# Altium integrated library Diodes - TVS.IntLib: 5379 symbols (part 51 of 122)
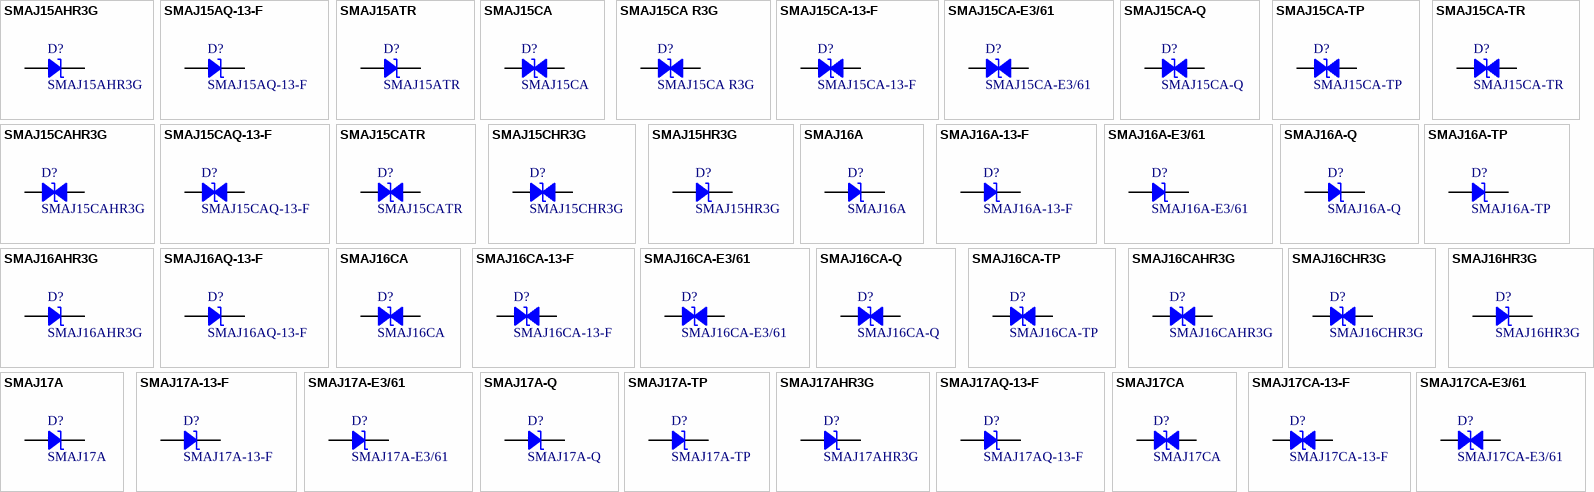
[diagram p184: symbols SMAJ15AHR3G to SMAJ17CA-E3/61]

## SMAJ15AHR3G
designator D?
TVS DIODE 15V 24.4V DO214AC; Manufacturer: Taiwan Semiconductor Corporation; Current - Peak Pulse (10/1000µs): 16.4A; Power Line Protection: No; Power - Peak Pulse: 400W; Type: Zener; Unidirectional Channels: 1; Voltage - Breakdown (Min): 16.7V; Part Number: SMAJ15AHR3G; Applications: Automotive; ComponentLink1Description: Datasheet; ComponentLink1URL: https://www.taiwansemi.com/products/datasheet/SMAJ%20SERIES_S1901.pdf; ComponentLink2Description: DigiKey Link; ComponentLink2URL: http://digikey.com/product-detail/en/taiwan-semiconductor-corporation/SMAJ15AHR3G/SMAJ15AHR3GCT-ND/10287915; LastUpdated: 9/2/2020 1:20:17 AM; Lifecycle Status: Active; Minimum Order: 1; Mounting Type: Surface Mount; Operating Temperature: -55°C ~ 150°C (TJ); Package / Case: DO-214AC, SMA; Packaging: TapeAndReel; PartId: 6067; Part Status: Active; Price: 0.11; Series: Automotive, AEC-Q101, SMAJ; Supplier 1: DigiKey; Supplier Part Number 1: SMAJ15AHR3GCT-ND; Supplier Device Package: DO-214AC (SMA); Voltage - Clamping (Max) @ Ipp: 24.4V; Voltage - Reverse Standoff (Typ): 15V
footprint DO214AC SMA
pins: 1, 2

## SMAJ15AQ-13-F
designator D?
TRANSIENT VOLTAGE SUPPRESSOR,SMA; Manufacturer: Diodes Incorporated; Current - Peak Pulse (10/1000µs): 16.4A; Power Line Protection: No; Power - Peak Pulse: 400W; Type: Zener; Unidirectional Channels: 1; Voltage - Breakdown (Min): 16.7V; Voltage - Clamping (Max) @ Ipp: 24.4V; Voltage - Reverse Standoff (Typ): 15V; Part Number: SMAJ15AQ-13-F; Applications: Automotive; ComponentLink1Description: Datasheet; ComponentLink1URL: https://www.diodes.com/assets/Datasheets/ds40739.pdf; ComponentLink2Description: DigiKey Link; ComponentLink2URL: http://digikey.com/product-detail/en/diodes-incorporated/SMAJ15AQ-13-F/SMAJ15AQ-13-FDICT-ND/9738956; LastUpdated: 9/2/2020 1:20:13 AM; Lifecycle Status: Active; Minimum Order: 1; Mounting Type: Surface Mount; Operating Temperature: -55°C ~ 150°C (TJ); Package / Case: DO-214AC, SMA; Packaging: TapeAndReel; PartId: 5653; Part Status: Active; Price: 0.09; Series: Automotive, AEC-Q101; Supplier 1: DigiKey; Supplier Part Number 1: SMAJ15AQ-13-FDICT-ND; Supplier Device Package: SMA
footprint DO214AC SMA
pins: 1, 2

## SMAJ15ATR
designator D?
TVS DIODE 15V 24.4V SMA; Manufacturer: SMC Diode Solutions; Current - Peak Pulse (10/1000µs): 16.4A; Power Line Protection: No; Power - Peak Pulse: 400W; Type: Zener; Unidirectional Channels: 1; Voltage - Breakdown (Min): 16.7V; Part Number: SMAJ15ATR; Applications: General Purpose; ComponentLink1Description: Datasheet; ComponentLink1URL: http://www.smc-diodes.com/propdf/SMAJ%20SERIES%20N0223%20REV.B.pdf; ComponentLink2Description: DigiKey Link; ComponentLink2URL: http://digikey.com/product-detail/en/smc-diode-solutions/SMAJ15ATR/1655-1609-1-ND/6023054; LastUpdated: 9/2/2020 1:20:18 AM; Lifecycle Status: Active; Minimum Order: 1; Mounting Type: Surface Mount; Operating Temperature: -55°C ~ 150°C (TJ); Package / Case: DO-214AC, SMA; Packaging: TapeAndReel; PartId: 6169; Part Status: Active; Price: 0.07; Series: SMAJ; Supplier 1: DigiKey; Supplier Part Number 1: 1655-1609-1-ND; Supplier Device Package: SMA (DO-214AC); Voltage - Clamping (Max) @ Ipp: 24.4V; Voltage - Reverse Standoff (Typ): 15V
footprint DO214AC SMA
pins: 1, 2

## SMAJ15CA
designator D?
TVS DIODE 15V 24.4V DO214AC; Manufacturer: Littelfuse Inc.; Bidirectional Channels: 1; Current - Peak Pulse (10/1000µs): 16.4A; Power Line Protection: No; Power - Peak Pulse: 400W; Type: Zener; Voltage - Breakdown (Min): 16.7V; Part Number: SMAJ15CA; Applications: General Purpose; ComponentLink1Description: Datasheet; ComponentLink1URL: https://www.littelfuse.com/~/media/electronics/datasheets/tvs_diodes/littelfuse_tvs_diode_smaj_datasheet.pdf.pdf; ComponentLink2Description: DigiKey Link; ComponentLink2URL: http://digikey.com/product-detail/en/littelfuse-inc/SMAJ15CA/SMAJ15CALFCT-ND/762489; LastUpdated: 9/2/2020 1:27:51 AM; Lifecycle Status: Active; Minimum Order: 1; Mounting Type: Surface Mount; Operating Temperature: -65°C ~ 150°C (TJ); Package / Case: DO-214AC, SMA; Packaging: TapeAndReel; PartId: 7377; Part Status: Active; Price: 0.08; Series: SMAJ; Supplier 1: DigiKey; Supplier Part Number 1: SMAJ15CALFCT-ND; Supplier Device Package: DO-214AC (SMA); Voltage - Clamping (Max) @ Ipp: 24.4V; Voltage - Reverse Standoff (Typ): 15V
footprint DO214AC SMA
pins: 1, 2

## SMAJ15CA R3G
designator D?
TVS DIODE 15V 24.4V DO214AC; Manufacturer: Taiwan Semiconductor Corporation; Bidirectional Channels: 1; Current - Peak Pulse (10/1000µs): 16.4A; Power Line Protection: No; Power - Peak Pulse: 400W; Type: Zener; Voltage - Breakdown (Min): 16.7V; Part Number: SMAJ15CA R3G; Applications: General Purpose; ComponentLink1Description: Datasheet; ComponentLink1URL: https://www.taiwansemi.com/products/datasheet/SMAJ%20SERIES_S1901.pdf; ComponentLink2Description: DigiKey Link; ComponentLink2URL: http://digikey.com/product-detail/en/taiwan-semiconductor-corporation/SMAJ15CA-R3G/SMAJ15CAR3GCT-ND/7358793; LastUpdated: 9/2/2020 1:27:53 AM; Lifecycle Status: Active; Minimum Order: 0; Mounting Type: Surface Mount; Operating Temperature: -55°C ~ 150°C (TJ); Package / Case: DO-214AC, SMA; Packaging: TapeAndReel; PartId: 7577; Part Status: Active; Price: 0.11; Series: SMAJ; Supplier 1: DigiKey; Supplier Part Number 1: SMAJ15CAR3GCT-ND; Supplier Device Package: DO-214AC (SMA); Voltage - Clamping (Max) @ Ipp: 24.4V; Voltage - Reverse Standoff (Typ): 15V
footprint DO214AC SMA
pins: 1, 2

## SMAJ15CA-13-F
designator D?
TVS DIODE 15V 24.4V SMA; Manufacturer: Diodes Incorporated; Bidirectional Channels: 1; Current - Peak Pulse (10/1000µs): 16.4A; Power Line Protection: No; Power - Peak Pulse: 400W; Type: Zener; Voltage - Breakdown (Min): 16.7V; Part Number: SMAJ15CA-13-F; Applications: General Purpose; ComponentLink1Description: Datasheet; ComponentLink1URL: https://www.diodes.com/assets/Datasheets/ds19005.pdf; ComponentLink2Description: DigiKey Link; ComponentLink2URL: http://digikey.com/product-detail/en/diodes-incorporated/SMAJ15CA-13-F/SMAJ15CA-FDICT-ND/725071; LastUpdated: 9/2/2020 1:27:52 AM; Lifecycle Status: Active; Minimum Order: 1; Mounting Type: Surface Mount; Operating Temperature: -55°C ~ 150°C (TJ); Package / Case: DO-214AC, SMA; Packaging: TapeAndReel; PartId: 7424; Part Status: Active; Price: 0.09; Series: -; Supplier 1: DigiKey; Supplier Part Number 1: SMAJ15CA-FDICT-ND; Supplier Device Package: SMA; Voltage - Clamping (Max) @ Ipp: 24.4V; Voltage - Reverse Standoff (Typ): 15V
footprint DO214AC SMA
pins: 1, 2

## SMAJ15CA-E3/61
designator D?
TVS DIODE 15V 24.4V DO214AC; Manufacturer: Vishay Semiconductor Diodes Division; Bidirectional Channels: 1; Current - Peak Pulse (10/1000µs): 16.4A; Power Line Protection: No; Power - Peak Pulse: 400W; Type: Zener; Voltage - Breakdown (Min): 16.7V; Part Number: SMAJ15CA-E3/61; Applications: General Purpose; ComponentLink1Description: Datasheet; ComponentLink1URL: http://www.vishay.com/docs/88390/smaj50a.pdf; ComponentLink2Description: DigiKey Link; ComponentLink2URL: http://digikey.com/product-detail/en/vishay-semiconductor-diodes-division/SMAJ15CA-E3-61/SMAJ15CA-E3-61GICT-ND/2413372; LastUpdated: 9/2/2020 1:27:52 AM; Lifecycle Status: Active; Minimum Order: 1; Mounting Type: Surface Mount; Operating Temperature: -55°C ~ 150°C (TJ); Package / Case: DO-214AC, SMA; Packaging: TapeAndReel; PartId: 7528; Part Status: Active; Price: 0.09; Series: TransZorb®; Supplier 1: DigiKey; Supplier Part Number 1: SMAJ15CA-E3/61GICT-ND; Supplier Device Package: DO-214AC (SMA); Voltage - Clamping (Max) @ Ipp: 24.4V; Voltage - Reverse Standoff (Typ): 15V
footprint DO214AC SMA
pins: 1, 2

## SMAJ15CA-Q
designator D?
TVS DIODE 15V 24.4V SMA; Manufacturer: Bourns Inc.; Bidirectional Channels: 1; Current - Peak Pulse (10/1000µs): 16.4A; Power Line Protection: No; Power - Peak Pulse: 400W; Type: Zener; Voltage - Breakdown (Min): 16.7V; Part Number: SMAJ15CA-Q; Applications: Automotive; ComponentLink1Description: Datasheet; ComponentLink1URL: https://www.bourns.com/docs/Product-Datasheets/SMAJ-Q.pdf; ComponentLink2Description: DigiKey Link; ComponentLink2URL: http://digikey.com/product-detail/en/bourns-inc/SMAJ15CA-Q/SMAJ15CA-QCT-ND/10222682; LastUpdated: 9/2/2020 1:27:53 AM; Lifecycle Status: Active; Minimum Order: 1; Mounting Type: Surface Mount; Operating Temperature: -55°C ~ 150°C (TJ); Package / Case: DO-214AC, SMA; Packaging: TapeAndReel; PartId: 7616; Part Status: Active; Price: 0.11; Series: Automotive, AEC-Q101, SMAJ; Supplier 1: DigiKey; Supplier Part Number 1: SMAJ15CA-QCT-ND; Supplier Device Package: SMA (DO-214AC); Voltage - Clamping (Max) @ Ipp: 24.4V; Voltage - Reverse Standoff (Typ): 15V
footprint DO214AC SMA
pins: 1, 2

## SMAJ15CA-TP
designator D?
TVS DIODE 15V 24.4V DO214AC; Manufacturer: Micro Commercial Co; Bidirectional Channels: 1; Current - Peak Pulse (10/1000µs): 16.4A; Power Line Protection: No; Power - Peak Pulse: 400W; Type: Zener; Voltage - Breakdown (Min): 16.7V; Part Number: SMAJ15CA-TP; Applications: General Purpose; ComponentLink1Description: Datasheet; ComponentLink1URL: https://www.mccsemi.com/pdf/Products/SMAJ5.0~SMAJ440CA(SMA).pdf; ComponentLink2Description: DigiKey Link; ComponentLink2URL: http://digikey.com/product-detail/en/micro-commercial-co/SMAJ15CA-TP/SMAJ15CA-TPMSCT-ND/1200575; LastUpdated: 9/2/2020 1:27:54 AM; Lifecycle Status: Active; Minimum Order: 1; Mounting Type: Surface Mount; Operating Temperature: -55°C ~ 175°C (TA); Package / Case: DO-214AC, SMA; Packaging: TapeAndReel; PartId: 7649; Part Status: Active; Price: 0.10; Series: -; Supplier 1: DigiKey; Supplier Part Number 1: SMAJ15CA-TPMSCT-ND; Supplier Device Package: DO-214AC (SMA); Voltage - Clamping (Max) @ Ipp: 24.4V; Voltage - Reverse Standoff (Typ): 15V
footprint DO214AC SMA
pins: 1, 2

## SMAJ15CA-TR
designator D?
TVS DIODE 15V 32.5V SMA; Manufacturer: STMicroelectronics; Bidirectional Channels: 1; Current - Peak Pulse (10/1000µs): 71A (8/20µs); Power Line Protection: No; Power - Peak Pulse: 400W; Type: Zener; Voltage - Breakdown (Min): 16.7V; Part Number: SMAJ15CA-TR; Applications: General Purpose; ComponentLink1Description: Datasheet; ComponentLink1URL: http://www.st.com/content/ccc/resource/technical/document/datasheet/ff/c0/80/cc/19/4c/45/af/CD00001333.pdf/files/CD00001333.pdf/_jcr_content/translations/en.CD00001333.pdf; ComponentLink2Description: DigiKey Link; ComponentLink2URL: http://digikey.com/product-detail/en/stmicroelectronics/SMAJ15CA-TR/497-2997-1-ND/634874; LastUpdated: 9/2/2020 1:27:53 AM; Lifecycle Status: Active; Minimum Order: 1; Mounting Type: Surface Mount; Operating Temperature: -55°C ~ 150°C (TJ); Package / Case: DO-214AC, SMA; Packaging: TapeAndReel; PartId: 7533; Part Status: Active; Price: 0.10; Series: SMAJ, TRANSIL™; Supplier 1: DigiKey; Supplier Part Number 1: 497-2997-1-ND; Supplier Device Package: SMA (DO-214AC); Voltage - Clamping (Max) @ Ipp: 32.5V; Voltage - Reverse Standoff (Typ): 15V
footprint DO214AC SMA
pins: 1, 2

## SMAJ15CAHR3G
designator D?
TVS DIODE 15V 24.4V DO214AC; Manufacturer: Taiwan Semiconductor Corporation; Bidirectional Channels: 1; Current - Peak Pulse (10/1000µs): 16.4A; Power Line Protection: No; Power - Peak Pulse: 400W; Type: Zener; Voltage - Breakdown (Min): 16.7V; Part Number: SMAJ15CAHR3G; Applications: Automotive; ComponentLink1Description: Datasheet; ComponentLink1URL: https://www.taiwansemi.com/products/datasheet/SMAJ%20SERIES_S1901.pdf; ComponentLink2Description: DigiKey Link; ComponentLink2URL: http://digikey.com/product-detail/en/taiwan-semiconductor-corporation/SMAJ15CAHR3G/SMAJ15CAHR3GCT-ND/10287916; LastUpdated: 9/2/2020 1:27:54 AM; Lifecycle Status: Active; Minimum Order: 1; Mounting Type: Surface Mount; Operating Temperature: -55°C ~ 150°C (TJ); Package / Case: DO-214AC, SMA; Packaging: TapeAndReel; PartId: 7710; Part Status: Active; Price: 0.12; Series: Automotive, AEC-Q101, SMAJ; Supplier 1: DigiKey; Supplier Part Number 1: SMAJ15CAHR3GCT-ND; Supplier Device Package: DO-214AC (SMA); Voltage - Clamping (Max) @ Ipp: 24.4V; Voltage - Reverse Standoff (Typ): 15V
footprint DO214AC SMA
pins: 1, 2

## SMAJ15CAQ-13-F
designator D?
TRANSIENT VOLTAGE SUPPRESSOR,SMA; Manufacturer: Diodes Incorporated; Bidirectional Channels: 1; Current - Peak Pulse (10/1000µs): 16.4A; Power Line Protection: No; Power - Peak Pulse: 400W; Type: Zener; Voltage - Breakdown (Min): 16.7V; Voltage - Clamping (Max) @ Ipp: 24.4V; Voltage - Reverse Standoff (Typ): 15V; Part Number: SMAJ15CAQ-13-F; Applications: Automotive; ComponentLink1Description: Datasheet; ComponentLink1URL: https://www.diodes.com/assets/Datasheets/ds40739.pdf; ComponentLink2Description: DigiKey Link; ComponentLink2URL: http://digikey.com/product-detail/en/diodes-incorporated/SMAJ15CAQ-13-F/SMAJ15CAQ-13-FDICT-ND/9738968; LastUpdated: 9/2/2020 1:27:53 AM; Lifecycle Status: Active; Minimum Order: 1; Mounting Type: Surface Mount; Operating Temperature: -55°C ~ 150°C (TJ); Package / Case: DO-214AC, SMA; Packaging: TapeAndReel; PartId: 7561; Part Status: Active; Price: 0.10; Series: Automotive, AEC-Q101; Supplier 1: DigiKey; Supplier Part Number 1: SMAJ15CAQ-13-FDICT-ND; Supplier Device Package: SMA
footprint DO214AC SMA
pins: 1, 2

## SMAJ15CATR
designator D?
TVS DIODE 15V 24.4V SMA; Manufacturer: SMC Diode Solutions; Bidirectional Channels: 1; Current - Peak Pulse (10/1000µs): 16.4A; Power Line Protection: No; Power - Peak Pulse: 400W; Type: Zener; Voltage - Breakdown (Min): 16.7V; Part Number: SMAJ15CATR; Applications: General Purpose; ComponentLink1Description: Datasheet; ComponentLink1URL: http://www.smc-diodes.com/propdf/SMAJ%20SERIES%20N0223%20REV.B.pdf; ComponentLink2Description: DigiKey Link; ComponentLink2URL: http://digikey.com/product-detail/en/smc-diode-solutions/SMAJ15CATR/1655-1610-1-ND/6023055; LastUpdated: 9/2/2020 1:27:51 AM; Lifecycle Status: Active; Minimum Order: 1; Mounting Type: Surface Mount; Operating Temperature: -55°C ~ 150°C (TJ); Package / Case: DO-214AC, SMA; Packaging: TapeAndReel; PartId: 7343; Part Status: Active; Price: 0.07; Series: SMAJ; Supplier 1: DigiKey; Supplier Part Number 1: 1655-1610-1-ND; Supplier Device Package: SMA (DO-214AC); Voltage - Clamping (Max) @ Ipp: 24.4V; Voltage - Reverse Standoff (Typ): 15V
footprint DO214AC SMA
pins: 1, 2

## SMAJ15CHR3G
designator D?
400W 18.6V 10% BIDIRECTIONAL TVS; Manufacturer: Taiwan Semiconductor Corporation; Bidirectional Channels: 1; Current - Peak Pulse (10/1000µs): 14.9A; Power Line Protection: No; Type: Zener; Voltage - Breakdown (Min): 16.7V; Voltage - Clamping (Max) @ Ipp: 26.9V; Voltage - Reverse Standoff (Typ): 15V; Part Number: SMAJ15CHR3G; Applications: Automotive; ComponentLink1Description: Datasheet; ComponentLink1URL: https://www.taiwansemi.com/products/datasheet/SMAJ%20SERIES_S1901.pdf; ComponentLink2Description: DigiKey Link; ComponentLink2URL: http://digikey.com/product-detail/en/taiwan-semiconductor-corporation/SMAJ15CHR3G/SMAJ15CHR3GCT-ND/10287833; LastUpdated: 9/2/2020 1:27:54 AM; Lifecycle Status: Active; Minimum Order: 1; Mounting Type: Surface Mount; Operating Temperature: -55°C ~ 150°C (TJ); Package / Case: DO-214AC, SMA; Packaging: TapeAndReel; PartId: 7746; Part Status: Active; Power - Peak Pulse: 400W; Price: 0.11; Series: Automotive, AEC-Q101, SMAJ; Supplier 1: DigiKey; Supplier Part Number 1: SMAJ15CHR3GCT-ND; Supplier Device Package: DO-214AC (SMA)
footprint DO214AC SMA
pins: 1, 2

## SMAJ15HR3G
designator D?
400W 18.6V 10% UNIDIRECTIONAL TV; Manufacturer: Taiwan Semiconductor Corporation; Current - Peak Pulse (10/1000µs): 14.9A; Power Line Protection: No; Type: Zener; Unidirectional Channels: 1; Voltage - Breakdown (Min): 16.7V; Voltage - Clamping (Max) @ Ipp: 26.9V; Voltage - Reverse Standoff (Typ): 15V; Part Number: SMAJ15HR3G; Applications: Automotive; ComponentLink1Description: Datasheet; ComponentLink1URL: https://www.taiwansemi.com/products/datasheet/SMAJ%20SERIES_S1901.pdf; ComponentLink2Description: DigiKey Link; ComponentLink2URL: http://digikey.com/product-detail/en/taiwan-semiconductor-corporation/SMAJ15HR3G/SMAJ15HR3GCT-ND/10287834; LastUpdated: 9/2/2020 1:20:17 AM; Lifecycle Status: Active; Minimum Order: 1; Mounting Type: Surface Mount; Operating Temperature: -55°C ~ 150°C (TJ); Package / Case: DO-214AC, SMA; Packaging: TapeAndReel; PartId: 6017; Part Status: Active; Power - Peak Pulse: 400W; Price: 0.12; Series: Automotive, AEC-Q101, SMAJ; Supplier 1: DigiKey; Supplier Part Number 1: SMAJ15HR3GCT-ND; Supplier Device Package: DO-214AC (SMA)
footprint DO214AC SMA
pins: 1, 2

## SMAJ16A
designator D?
TVS DIODE 16V 26V DO214AC; Manufacturer: Littelfuse Inc.; Current - Peak Pulse (10/1000µs): 15.4A; Power Line Protection: No; Power - Peak Pulse: 400W; Type: Zener; Unidirectional Channels: 1; Voltage - Breakdown (Min): 17.8V; Part Number: SMAJ16A; Applications: General Purpose; ComponentLink1Description: Datasheet; ComponentLink1URL: https://www.littelfuse.com/~/media/electronics/datasheets/tvs_diodes/littelfuse_tvs_diode_smaj_datasheet.pdf.pdf; ComponentLink2Description: DigiKey Link; ComponentLink2URL: http://digikey.com/product-detail/en/littelfuse-inc/SMAJ16A/SMAJ16ALFCT-ND/762490; LastUpdated: 9/2/2020 1:20:14 AM; Lifecycle Status: Active; Minimum Order: 1; Mounting Type: Surface Mount; Operating Temperature: -65°C ~ 150°C (TJ); Package / Case: DO-214AC, SMA; Packaging: TapeAndReel; PartId: 5707; Part Status: Active; Price: 0.08; Series: SMAJ; Supplier 1: DigiKey; Supplier Part Number 1: SMAJ16ALFCT-ND; Supplier Device Package: DO-214AC (SMA); Voltage - Clamping (Max) @ Ipp: 26V; Voltage - Reverse Standoff (Typ): 16V
footprint DO214AC SMA
pins: 1, 2

## SMAJ16A-13-F
designator D?
TVS DIODE 16V 26V SMA; Manufacturer: Diodes Incorporated; Current - Peak Pulse (10/1000µs): 15.3A; Power Line Protection: No; Power - Peak Pulse: 400W; Type: Zener; Unidirectional Channels: 1; Voltage - Breakdown (Min): 17.8V; Part Number: SMAJ16A-13-F; Applications: General Purpose; ComponentLink1Description: Datasheet; ComponentLink1URL: https://www.diodes.com/assets/Datasheets/ds19005.pdf; ComponentLink2Description: DigiKey Link; ComponentLink2URL: http://digikey.com/product-detail/en/diodes-incorporated/SMAJ16A-13-F/SMAJ16A-FDICT-ND/816009; LastUpdated: 9/2/2020 1:20:16 AM; Lifecycle Status: Active; Minimum Order: 1; Mounting Type: Surface Mount; Operating Temperature: -55°C ~ 150°C (TJ); Package / Case: DO-214AC, SMA; Packaging: TapeAndReel; PartId: 5957; Part Status: Active; Price: 0.08; Series: -; Supplier 1: DigiKey; Supplier Part Number 1: SMAJ16A-FDICT-ND; Supplier Device Package: SMA; Voltage - Clamping (Max) @ Ipp: 26V; Voltage - Reverse Standoff (Typ): 16V
footprint DO214AC SMA
pins: 1, 2

## SMAJ16A-E3/61
designator D?
TVS DIODE 16V 26V DO214AC; Manufacturer: Vishay Semiconductor Diodes Division; Current - Peak Pulse (10/1000µs): 15.4A; Power Line Protection: No; Power - Peak Pulse: 400W; Type: Zener; Unidirectional Channels: 1; Voltage - Breakdown (Min): 17.8V; Part Number: SMAJ16A-E3/61; Applications: General Purpose; ComponentLink1Description: Datasheet; ComponentLink1URL: http://www.vishay.com/docs/88390/smaj50a.pdf; ComponentLink2Description: DigiKey Link; ComponentLink2URL: http://digikey.com/product-detail/en/vishay-semiconductor-diodes-division/SMAJ16A-E3-61/SMAJ16A-E3-61GICT-ND/2413446; LastUpdated: 9/2/2020 1:20:14 AM; Lifecycle Status: Active; Minimum Order: 1; Mounting Type: Surface Mount; Operating Temperature: -55°C ~ 150°C (TJ); Package / Case: DO-214AC, SMA; Packaging: TapeAndReel; PartId: 5675; Part Status: Active; Price: 0.10; Series: TransZorb®; Supplier 1: DigiKey; Supplier Part Number 1: SMAJ16A-E3/61GICT-ND; Supplier Device Package: DO-214AC (SMA); Voltage - Clamping (Max) @ Ipp: 26V; Voltage - Reverse Standoff (Typ): 16V
footprint DO214AC SMA
pins: 1, 2

## SMAJ16A-Q
designator D?
TVS DIODE 16V 26V SMA; Manufacturer: Bourns Inc.; Current - Peak Pulse (10/1000µs): 15.3A; Power Line Protection: No; Power - Peak Pulse: 400W; Type: Zener; Unidirectional Channels: 1; Voltage - Breakdown (Min): 17.8V; Part Number: SMAJ16A-Q; Applications: Automotive; ComponentLink1Description: Datasheet; ComponentLink1URL: https://www.bourns.com/docs/Product-Datasheets/SMAJ-Q.pdf; ComponentLink2Description: DigiKey Link; ComponentLink2URL: http://digikey.com/product-detail/en/bourns-inc/SMAJ16A-Q/SMAJ16A-QCT-ND/10222683; LastUpdated: 9/2/2020 1:20:13 AM; Lifecycle Status: Active; Minimum Order: 1; Mounting Type: Surface Mount; Operating Temperature: -55°C ~ 150°C (TJ); Package / Case: DO-214AC, SMA; Packaging: TapeAndReel; PartId: 5631; Part Status: Active; Price: 0.10; Series: Automotive, AEC-Q101, SMAJ; Supplier 1: DigiKey; Supplier Part Number 1: SMAJ16A-QCT-ND; Supplier Device Package: SMA (DO-214AC); Voltage - Clamping (Max) @ Ipp: 26V; Voltage - Reverse Standoff (Typ): 16V
footprint DO214AC SMA
pins: 1, 2

## SMAJ16A-TP
designator D?
TVS DIODE 16V 26V DO214AC; Manufacturer: Micro Commercial Co; Current - Peak Pulse (10/1000µs): 15.3A; Power Line Protection: No; Power - Peak Pulse: 400W; Type: Zener; Unidirectional Channels: 1; Voltage - Breakdown (Min): 17.8V; Part Number: SMAJ16A-TP; Applications: General Purpose; ComponentLink1Description: Datasheet; ComponentLink1URL: https://www.mccsemi.com/pdf/Products/SMAJ5.0~SMAJ440CA(SMA).pdf; ComponentLink2Description: DigiKey Link; ComponentLink2URL: http://digikey.com/product-detail/en/micro-commercial-co/SMAJ16A-TP/SMAJ16A-TPMSCT-ND/1200576; LastUpdated: 9/2/2020 1:20:17 AM; Lifecycle Status: Active; Minimum Order: 1; Mounting Type: Surface Mount; Operating Temperature: -55°C ~ 175°C (TA); Package / Case: DO-214AC, SMA; Packaging: TapeAndReel; PartId: 6095; Part Status: Active; Price: 0.10; Series: -; Supplier 1: DigiKey; Supplier Part Number 1: SMAJ16A-TPMSCT-ND; Supplier Device Package: DO-214AC (SMA); Voltage - Clamping (Max) @ Ipp: 26V; Voltage - Reverse Standoff (Typ): 16V
footprint DO214AC SMA
pins: 1, 2

## SMAJ16AHR3G
designator D?
TVS DIODE 16V 26V DO214AC; Manufacturer: Taiwan Semiconductor Corporation; Current - Peak Pulse (10/1000µs): 15.4A; Power Line Protection: No; Power - Peak Pulse: 400W; Type: Zener; Unidirectional Channels: 1; Voltage - Breakdown (Min): 17.8V; Part Number: SMAJ16AHR3G; Applications: Automotive; ComponentLink1Description: Datasheet; ComponentLink1URL: https://www.taiwansemi.com/products/datasheet/SMAJ%20SERIES_S1901.pdf; ComponentLink2Description: DigiKey Link; ComponentLink2URL: http://digikey.com/product-detail/en/taiwan-semiconductor-corporation/SMAJ16AHR3G/SMAJ16AHR3GCT-ND/10287919; LastUpdated: 9/2/2020 1:20:17 AM; Lifecycle Status: Active; Minimum Order: 1; Mounting Type: Surface Mount; Operating Temperature: -55°C ~ 150°C (TJ); Package / Case: DO-214AC, SMA; Packaging: TapeAndReel; PartId: 6034; Part Status: Active; Price: 0.11; Series: Automotive, AEC-Q101, SMAJ; Supplier 1: DigiKey; Supplier Part Number 1: SMAJ16AHR3GCT-ND; Supplier Device Package: DO-214AC (SMA); Voltage - Clamping (Max) @ Ipp: 26V; Voltage - Reverse Standoff (Typ): 16V
footprint DO214AC SMA
pins: 1, 2

## SMAJ16AQ-13-F
designator D?
TRANSIENT VOLTAGE SUPPRESSOR,SMA; Manufacturer: Diodes Incorporated; Current - Peak Pulse (10/1000µs): 15.3A; Power Line Protection: No; Power - Peak Pulse: 400W; Type: Zener; Unidirectional Channels: 1; Voltage - Breakdown (Min): 17.8V; Voltage - Clamping (Max) @ Ipp: 26V; Voltage - Reverse Standoff (Typ): 16V; Part Number: SMAJ16AQ-13-F; Applications: Automotive; ComponentLink1Description: Datasheet; ComponentLink1URL: https://www.diodes.com/assets/Datasheets/ds40739.pdf; ComponentLink2Description: DigiKey Link; ComponentLink2URL: http://digikey.com/product-detail/en/diodes-incorporated/SMAJ16AQ-13-F/SMAJ16AQ-13-FDICT-ND/9738957; LastUpdated: 9/2/2020 1:20:13 AM; Lifecycle Status: Active; Minimum Order: 1; Mounting Type: Surface Mount; Operating Temperature: -55°C ~ 150°C (TJ); Package / Case: DO-214AC, SMA; Packaging: TapeAndReel; PartId: 5648; Part Status: Active; Price: 0.09; Series: Automotive, AEC-Q101; Supplier 1: DigiKey; Supplier Part Number 1: SMAJ16AQ-13-FDICT-ND; Supplier Device Package: SMA
footprint DO214AC SMA
pins: 1, 2

## SMAJ16CA
designator D?
TVS DIODE 16V 26V DO214AC; Manufacturer: Littelfuse Inc.; Bidirectional Channels: 1; Current - Peak Pulse (10/1000µs): 15.4A; Power Line Protection: No; Power - Peak Pulse: 400W; Type: Zener; Voltage - Breakdown (Min): 17.8V; Part Number: SMAJ16CA; Applications: General Purpose; ComponentLink1Description: Datasheet; ComponentLink1URL: https://www.littelfuse.com/~/media/electronics/datasheets/tvs_diodes/littelfuse_tvs_diode_smaj_datasheet.pdf.pdf; ComponentLink2Description: DigiKey Link; ComponentLink2URL: http://digikey.com/product-detail/en/littelfuse-inc/SMAJ16CA/SMAJ16CALFCT-ND/762491; LastUpdated: 9/2/2020 1:27:51 AM; Lifecycle Status: Active; Minimum Order: 1; Mounting Type: Surface Mount; Operating Temperature: -65°C ~ 150°C (TJ); Package / Case: DO-214AC, SMA; Packaging: TapeAndReel; PartId: 7410; Part Status: Active; Price: 0.09; Series: SMAJ; Supplier 1: DigiKey; Supplier Part Number 1: SMAJ16CALFCT-ND; Supplier Device Package: DO-214AC (SMA); Voltage - Clamping (Max) @ Ipp: 26V; Voltage - Reverse Standoff (Typ): 16V
footprint DO214AC SMA
pins: 1, 2

## SMAJ16CA-13-F
designator D?
TVS DIODE 16V 26V SMA; Manufacturer: Diodes Incorporated; Bidirectional Channels: 1; Current - Peak Pulse (10/1000µs): 15.3A; Power Line Protection: No; Power - Peak Pulse: 400W; Type: Zener; Voltage - Breakdown (Min): 17.8V; Part Number: SMAJ16CA-13-F; Applications: General Purpose; ComponentLink1Description: Datasheet; ComponentLink1URL: https://www.diodes.com/assets/Datasheets/ds19005.pdf; ComponentLink2Description: DigiKey Link; ComponentLink2URL: http://digikey.com/product-detail/en/diodes-incorporated/SMAJ16CA-13-F/SMAJ16CA-13FDICT-ND/724993; LastUpdated: 9/2/2020 1:27:55 AM; Lifecycle Status: Active; Minimum Order: 1; Mounting Type: Surface Mount; Operating Temperature: -55°C ~ 150°C (TJ); Package / Case: DO-214AC, SMA; Packaging: TapeAndReel; PartId: 7790; Part Status: Active; Price: 0.09; Series: -; Supplier 1: DigiKey; Supplier Part Number 1: SMAJ16CA-13FDICT-ND; Supplier Device Package: SMA; Voltage - Clamping (Max) @ Ipp: 26V; Voltage - Reverse Standoff (Typ): 16V
footprint DO214AC SMA
pins: 1, 2

## SMAJ16CA-E3/61
designator D?
TVS DIODE 16V 26V DO214AC; Manufacturer: Vishay Semiconductor Diodes Division; Bidirectional Channels: 1; Current - Peak Pulse (10/1000µs): 15.4A; Power Line Protection: No; Power - Peak Pulse: 400W; Type: Zener; Voltage - Breakdown (Min): 17.8V; Part Number: SMAJ16CA-E3/61; Applications: General Purpose; ComponentLink1Description: Datasheet; ComponentLink1URL: http://www.vishay.com/docs/88390/smaj50a.pdf; ComponentLink2Description: DigiKey Link; ComponentLink2URL: http://digikey.com/product-detail/en/vishay-semiconductor-diodes-division/SMAJ16CA-E3-61/SMAJ16CA-E3-61GICT-ND/3026213; LastUpdated: 9/2/2020 1:27:52 AM; Lifecycle Status: Active; Minimum Order: 1; Mounting Type: Surface Mount; Operating Temperature: -55°C ~ 150°C (TJ); Package / Case: DO-214AC, SMA; Packaging: TapeAndReel; PartId: 7517; Part Status: Active; Price: 0.10; Series: TransZorb®; Supplier 1: DigiKey; Supplier Part Number 1: SMAJ16CA-E3/61GICT-ND; Supplier Device Package: DO-214AC (SMA); Voltage - Clamping (Max) @ Ipp: 26V; Voltage - Reverse Standoff (Typ): 16V
footprint DO214AC SMA
pins: 1, 2

## SMAJ16CA-Q
designator D?
TVS DIODE 16V 26V SMA; Manufacturer: Bourns Inc.; Bidirectional Channels: 1; Current - Peak Pulse (10/1000µs): 15.3A; Power Line Protection: No; Power - Peak Pulse: 400W; Type: Zener; Voltage - Breakdown (Min): 17.8V; Part Number: SMAJ16CA-Q; Applications: Automotive; ComponentLink1Description: Datasheet; ComponentLink1URL: https://www.bourns.com/docs/Product-Datasheets/SMAJ-Q.pdf; ComponentLink2Description: DigiKey Link; ComponentLink2URL: http://digikey.com/product-detail/en/bourns-inc/SMAJ16CA-Q/SMAJ16CA-QCT-ND/10222684; LastUpdated: 9/2/2020 1:27:52 AM; Lifecycle Status: Active; Minimum Order: 1; Mounting Type: Surface Mount; Operating Temperature: -55°C ~ 150°C (TJ); Package / Case: DO-214AC, SMA; Packaging: TapeAndReel; PartId: 7496; Part Status: Active; Price: 0.11; Series: Automotive, AEC-Q101, SMAJ; Supplier 1: DigiKey; Supplier Part Number 1: SMAJ16CA-QCT-ND; Supplier Device Package: SMA (DO-214AC); Voltage - Clamping (Max) @ Ipp: 26V; Voltage - Reverse Standoff (Typ): 16V
footprint DO214AC SMA
pins: 1, 2

## SMAJ16CA-TP
designator D?
TVS DIODE 16V 26V DO214AC; Manufacturer: Micro Commercial Co; Bidirectional Channels: 1; Current - Peak Pulse (10/1000µs): 15.3A; Power Line Protection: No; Power - Peak Pulse: 400W; Type: Zener; Voltage - Breakdown (Min): 17.8V; Part Number: SMAJ16CA-TP; Applications: General Purpose; ComponentLink1Description: Datasheet; ComponentLink1URL: https://www.mccsemi.com/pdf/Products/SMAJ5.0~SMAJ440CA(SMA).pdf; ComponentLink2Description: DigiKey Link; ComponentLink2URL: http://digikey.com/product-detail/en/micro-commercial-co/SMAJ16CA-TP/SMAJ16CA-TPMSCT-ND/1200577; LastUpdated: 9/2/2020 1:27:52 AM; Lifecycle Status: Active; Minimum Order: 1; Mounting Type: Surface Mount; Operating Temperature: -55°C ~ 175°C (TA); Package / Case: DO-214AC, SMA; Packaging: TapeAndReel; PartId: 7445; Part Status: Active; Price: 0.10; Series: -; Supplier 1: DigiKey; Supplier Part Number 1: SMAJ16CA-TPMSCT-ND; Supplier Device Package: DO-214AC (SMA); Voltage - Clamping (Max) @ Ipp: 26V; Voltage - Reverse Standoff (Typ): 16V
footprint DO214AC SMA
pins: 1, 2

## SMAJ16CAHR3G
designator D?
TVS DIODE 16V 26V DO214AC; Manufacturer: Taiwan Semiconductor Corporation; Bidirectional Channels: 1; Current - Peak Pulse (10/1000µs): 15.4A; Power Line Protection: No; Power - Peak Pulse: 400W; Type: Zener; Voltage - Breakdown (Min): 17.8V; Part Number: SMAJ16CAHR3G; Applications: Automotive; ComponentLink1Description: Datasheet; ComponentLink1URL: https://www.taiwansemi.com/products/datasheet/SMAJ%20SERIES_S1901.pdf; ComponentLink2Description: DigiKey Link; ComponentLink2URL: http://digikey.com/product-detail/en/taiwan-semiconductor-corporation/SMAJ16CAHR3G/SMAJ16CAHR3GCT-ND/10287920; LastUpdated: 9/2/2020 1:27:54 AM; Lifecycle Status: Active; Minimum Order: 1; Mounting Type: Surface Mount; Operating Temperature: -55°C ~ 150°C (TJ); Package / Case: DO-214AC, SMA; Packaging: TapeAndReel; PartId: 7708; Part Status: Active; Price: 0.12; Series: Automotive, AEC-Q101, SMAJ; Supplier 1: DigiKey; Supplier Part Number 1: SMAJ16CAHR3GCT-ND; Supplier Device Package: DO-214AC (SMA); Voltage - Clamping (Max) @ Ipp: 26V; Voltage - Reverse Standoff (Typ): 16V
footprint DO214AC SMA
pins: 1, 2

## SMAJ16CHR3G
designator D?
400W 19.8V 10% BIDIRECTIONAL TVS; Manufacturer: Taiwan Semiconductor Corporation; Bidirectional Channels: 1; Current - Peak Pulse (10/1000µs): 13.9A; Power Line Protection: No; Type: Zener; Voltage - Breakdown (Min): 17.8V; Voltage - Clamping (Max) @ Ipp: 28.8V; Voltage - Reverse Standoff (Typ): 16V; Part Number: SMAJ16CHR3G; Applications: Automotive; ComponentLink1Description: Datasheet; ComponentLink1URL: https://www.taiwansemi.com/products/datasheet/SMAJ%20SERIES_S1901.pdf; ComponentLink2Description: DigiKey Link; ComponentLink2URL: http://digikey.com/product-detail/en/taiwan-semiconductor-corporation/SMAJ16CHR3G/SMAJ16CHR3GCT-ND/10287837; LastUpdated: 9/2/2020 1:27:54 AM; Lifecycle Status: Active; Minimum Order: 1; Mounting Type: Surface Mount; Operating Temperature: -55°C ~ 150°C (TJ); Package / Case: DO-214AC, SMA; Packaging: TapeAndReel; PartId: 7744; Part Status: Active; Power - Peak Pulse: 400W; Price: 0.11; Series: Automotive, AEC-Q101, SMAJ; Supplier 1: DigiKey; Supplier Part Number 1: SMAJ16CHR3GCT-ND; Supplier Device Package: DO-214AC (SMA)
footprint DO214AC SMA
pins: 1, 2

## SMAJ16HR3G
designator D?
400W 19.8V 10% UNIDIRECTIONAL TV; Manufacturer: Taiwan Semiconductor Corporation; Current - Peak Pulse (10/1000µs): 13.9A; Power Line Protection: No; Type: Zener; Unidirectional Channels: 1; Voltage - Breakdown (Min): 17.8V; Voltage - Clamping (Max) @ Ipp: 28.8V; Voltage - Reverse Standoff (Typ): 16V; Part Number: SMAJ16HR3G; Applications: Automotive; ComponentLink1Description: Datasheet; ComponentLink1URL: https://www.taiwansemi.com/products/datasheet/SMAJ%20SERIES_S1901.pdf; ComponentLink2Description: DigiKey Link; ComponentLink2URL: http://digikey.com/product-detail/en/taiwan-semiconductor-corporation/SMAJ16HR3G/SMAJ16HR3GCT-ND/10287838; LastUpdated: 9/2/2020 1:20:16 AM; Lifecycle Status: Active; Minimum Order: 1; Mounting Type: Surface Mount; Operating Temperature: -55°C ~ 150°C (TJ); Package / Case: DO-214AC, SMA; Packaging: TapeAndReel; PartId: 5992; Part Status: Active; Power - Peak Pulse: 400W; Price: 0.12; Series: Automotive, AEC-Q101, SMAJ; Supplier 1: DigiKey; Supplier Part Number 1: SMAJ16HR3GCT-ND; Supplier Device Package: DO-214AC (SMA)
footprint DO214AC SMA
pins: 1, 2

## SMAJ17A
designator D?
TVS DIODE 17V 27.6V DO214AC; Manufacturer: Littelfuse Inc.; Current - Peak Pulse (10/1000µs): 14.5A; Power Line Protection: No; Power - Peak Pulse: 400W; Type: Zener; Unidirectional Channels: 1; Voltage - Breakdown (Min): 18.9V; Part Number: SMAJ17A; Applications: General Purpose; ComponentLink1Description: Datasheet; ComponentLink1URL: https://www.littelfuse.com/~/media/electronics/datasheets/tvs_diodes/littelfuse_tvs_diode_smaj_datasheet.pdf.pdf; ComponentLink2Description: DigiKey Link; ComponentLink2URL: http://digikey.com/product-detail/en/littelfuse-inc/SMAJ17A/SMAJ17ALFCT-ND/762492; LastUpdated: 9/2/2020 1:20:14 AM; Lifecycle Status: Active; Minimum Order: 1; Mounting Type: Surface Mount; Operating Temperature: -65°C ~ 150°C (TJ); Package / Case: DO-214AC, SMA; Packaging: TapeAndReel; PartId: 5758; Part Status: Active; Price: 0.09; Series: SMAJ; Supplier 1: DigiKey; Supplier Part Number 1: SMAJ17ALFCT-ND; Supplier Device Package: DO-214AC (SMA); Voltage - Clamping (Max) @ Ipp: 27.6V; Voltage - Reverse Standoff (Typ): 17V
footprint DO214AC SMA
pins: 1, 2

## SMAJ17A-13-F
designator D?
TVS DIODE 17V 27.6V SMA; Manufacturer: Diodes Incorporated; Current - Peak Pulse (10/1000µs): 14.5A; Power Line Protection: No; Power - Peak Pulse: 400W; Type: Zener; Unidirectional Channels: 1; Voltage - Breakdown (Min): 18.9V; Part Number: SMAJ17A-13-F; Applications: General Purpose; ComponentLink1Description: Datasheet; ComponentLink1URL: https://www.diodes.com/assets/Datasheets/ds19005.pdf; ComponentLink2Description: DigiKey Link; ComponentLink2URL: http://digikey.com/product-detail/en/diodes-incorporated/SMAJ17A-13-F/SMAJ17A-FDICT-ND/806582; LastUpdated: 9/2/2020 1:20:16 AM; Lifecycle Status: Active; Minimum Order: 1; Mounting Type: Surface Mount; Operating Temperature: -55°C ~ 150°C (TJ); Package / Case: DO-214AC, SMA; Packaging: TapeAndReel; PartId: 5955; Part Status: Active; Price: 0.08; Series: -; Supplier 1: DigiKey; Supplier Part Number 1: SMAJ17A-FDICT-ND; Supplier Device Package: SMA; Voltage - Clamping (Max) @ Ipp: 27.6V; Voltage - Reverse Standoff (Typ): 17V
footprint DO214AC SMA
pins: 1, 2

## SMAJ17A-E3/61
designator D?
TVS DIODE 17V 27.6V DO214AC; Manufacturer: Vishay Semiconductor Diodes Division; Current - Peak Pulse (10/1000µs): 14.5A; Power Line Protection: No; Power - Peak Pulse: 400W; Type: Zener; Unidirectional Channels: 1; Voltage - Breakdown (Min): 18.9V; Part Number: SMAJ17A-E3/61; Applications: General Purpose; ComponentLink1Description: Datasheet; ComponentLink1URL: http://www.vishay.com/docs/88390/smaj50a.pdf; ComponentLink2Description: DigiKey Link; ComponentLink2URL: http://digikey.com/product-detail/en/vishay-semiconductor-diodes-division/SMAJ17A-E3-61/SMAJ17A-E3-61GICT-ND/3711953; LastUpdated: 9/2/2020 1:20:15 AM; Lifecycle Status: Active; Minimum Order: 1; Mounting Type: Surface Mount; Operating Temperature: -55°C ~ 150°C (TJ); Package / Case: DO-214AC, SMA; Packaging: TapeAndReel; PartId: 5813; Part Status: Active; Price: 0.10; Series: TransZorb®; Supplier 1: DigiKey; Supplier Part Number 1: SMAJ17A-E3/61GICT-ND; Supplier Device Package: DO-214AC (SMA); Voltage - Clamping (Max) @ Ipp: 27.6V; Voltage - Reverse Standoff (Typ): 17V
footprint DO214AC SMA
pins: 1, 2

## SMAJ17A-Q
designator D?
TVS DIODE 17V 27.6V SMA; Manufacturer: Bourns Inc.; Current - Peak Pulse (10/1000µs): 14.5A; Power Line Protection: No; Power - Peak Pulse: 400W; Type: Zener; Unidirectional Channels: 1; Voltage - Breakdown (Min): 18.9V; Part Number: SMAJ17A-Q; Applications: Automotive; ComponentLink1Description: Datasheet; ComponentLink1URL: https://www.bourns.com/docs/Product-Datasheets/SMAJ-Q.pdf; ComponentLink2Description: DigiKey Link; ComponentLink2URL: http://digikey.com/product-detail/en/bourns-inc/SMAJ17A-Q/SMAJ17A-QCT-ND/10222685; LastUpdated: 9/2/2020 1:20:15 AM; Lifecycle Status: Active; Minimum Order: 1; Mounting Type: Surface Mount; Operating Temperature: -55°C ~ 150°C (TJ); Package / Case: DO-214AC, SMA; Packaging: TapeAndReel; PartId: 5860; Part Status: Active; Price: 0.10; Series: Automotive, AEC-Q101, SMAJ; Supplier 1: DigiKey; Supplier Part Number 1: SMAJ17A-QCT-ND; Supplier Device Package: SMA (DO-214AC); Voltage - Clamping (Max) @ Ipp: 27.6V; Voltage - Reverse Standoff (Typ): 17V
footprint DO214AC SMA
pins: 1, 2

## SMAJ17A-TP
designator D?
TVS DIODE 17V 27.6V DO214AC; Manufacturer: Micro Commercial Co; Current - Peak Pulse (10/1000µs): 14.5A; Power Line Protection: No; Power - Peak Pulse: 400W; Type: Zener; Unidirectional Channels: 1; Voltage - Breakdown (Min): 18.9V; Part Number: SMAJ17A-TP; Applications: General Purpose; ComponentLink1Description: Datasheet; ComponentLink1URL: https://www.mccsemi.com/pdf/Products/SMAJ5.0~SMAJ440CA(SMA).pdf; ComponentLink2Description: DigiKey Link; ComponentLink2URL: http://digikey.com/product-detail/en/micro-commercial-co/SMAJ17A-TP/SMAJ17A-TPMSCT-ND/1200578; LastUpdated: 9/2/2020 1:20:15 AM; Lifecycle Status: Active; Minimum Order: 1; Mounting Type: Surface Mount; Operating Temperature: -55°C ~ 175°C (TA); Package / Case: DO-214AC, SMA; Packaging: TapeAndReel; PartId: 5792; Part Status: Active; Price: 0.10; Series: -; Supplier 1: DigiKey; Supplier Part Number 1: SMAJ17A-TPMSCT-ND; Supplier Device Package: DO-214AC (SMA); Voltage - Clamping (Max) @ Ipp: 27.6V; Voltage - Reverse Standoff (Typ): 17V
footprint DO214AC SMA
pins: 1, 2

## SMAJ17AHR3G
designator D?
TVS DIODE 17V 27.6V DO214AC; Manufacturer: Taiwan Semiconductor Corporation; Current - Peak Pulse (10/1000µs): 14.5A; Power Line Protection: No; Power - Peak Pulse: 400W; Type: Zener; Unidirectional Channels: 1; Voltage - Breakdown (Min): 18.9V; Part Number: SMAJ17AHR3G; Applications: Automotive; ComponentLink1Description: Datasheet; ComponentLink1URL: https://www.taiwansemi.com/products/datasheet/SMAJ%20SERIES_S1901.pdf; ComponentLink2Description: DigiKey Link; ComponentLink2URL: http://digikey.com/product-detail/en/taiwan-semiconductor-corporation/SMAJ17AHR3G/SMAJ17AHR3GCT-ND/10287923; LastUpdated: 9/2/2020 1:20:17 AM; Lifecycle Status: Active; Minimum Order: 1; Mounting Type: Surface Mount; Operating Temperature: -55°C ~ 150°C (TJ); Package / Case: DO-214AC, SMA; Packaging: TapeAndReel; PartId: 6065; Part Status: Active; Price: 0.11; Series: Automotive, AEC-Q101, SMAJ; Supplier 1: DigiKey; Supplier Part Number 1: SMAJ17AHR3GCT-ND; Supplier Device Package: DO-214AC (SMA); Voltage - Clamping (Max) @ Ipp: 27.6V; Voltage - Reverse Standoff (Typ): 17V
footprint DO214AC SMA
pins: 1, 2

## SMAJ17AQ-13-F
designator D?
TRANSIENT VOLTAGE SUPPRESSOR,SMA; Manufacturer: Diodes Incorporated; Current - Peak Pulse (10/1000µs): 14.5A; Power Line Protection: No; Power - Peak Pulse: 400W; Type: Zener; Unidirectional Channels: 1; Voltage - Breakdown (Min): 18.9V; Voltage - Clamping (Max) @ Ipp: 27.6V; Voltage - Reverse Standoff (Typ): 17V; Part Number: SMAJ17AQ-13-F; Applications: Automotive; ComponentLink1Description: Datasheet; ComponentLink1URL: https://www.diodes.com/assets/Datasheets/ds40739.pdf; ComponentLink2Description: DigiKey Link; ComponentLink2URL: http://digikey.com/product-detail/en/diodes-incorporated/SMAJ17AQ-13-F/SMAJ17AQ-13-FDICT-ND/9738958; LastUpdated: 9/2/2020 1:20:13 AM; Lifecycle Status: Active; Minimum Order: 1; Mounting Type: Surface Mount; Operating Temperature: -55°C ~ 150°C (TJ); Package / Case: DO-214AC, SMA; Packaging: TapeAndReel; PartId: 5647; Part Status: Active; Price: 0.09; Series: Automotive, AEC-Q101; Supplier 1: DigiKey; Supplier Part Number 1: SMAJ17AQ-13-FDICT-ND; Supplier Device Package: SMA
footprint DO214AC SMA
pins: 1, 2

## SMAJ17CA
designator D?
TVS DIODE 17V 27.6V DO214AC; Manufacturer: Littelfuse Inc.; Bidirectional Channels: 1; Current - Peak Pulse (10/1000µs): 14.5A; Power Line Protection: No; Power - Peak Pulse: 400W; Type: Zener; Voltage - Breakdown (Min): 18.9V; Part Number: SMAJ17CA; Applications: General Purpose; ComponentLink1Description: Datasheet; ComponentLink1URL: https://www.littelfuse.com/~/media/electronics/datasheets/tvs_diodes/littelfuse_tvs_diode_smaj_datasheet.pdf.pdf; ComponentLink2Description: DigiKey Link; ComponentLink2URL: http://digikey.com/product-detail/en/littelfuse-inc/SMAJ17CA/SMAJ17CALFCT-ND/762493; LastUpdated: 9/2/2020 1:27:51 AM; Lifecycle Status: Active; Minimum Order: 1; Mounting Type: Surface Mount; Operating Temperature: -65°C ~ 150°C (TJ); Package / Case: DO-214AC, SMA; Packaging: TapeAndReel; PartId: 7411; Part Status: Active; Price: 0.09; Series: SMAJ; Supplier 1: DigiKey; Supplier Part Number 1: SMAJ17CALFCT-ND; Supplier Device Package: DO-214AC (SMA); Voltage - Clamping (Max) @ Ipp: 27.6V; Voltage - Reverse Standoff (Typ): 17V
footprint DO214AC SMA
pins: 1, 2

## SMAJ17CA-13-F
designator D?
TVS DIODE 17V 27.6V SMA; Manufacturer: Diodes Incorporated; Bidirectional Channels: 1; Current - Peak Pulse (10/1000µs): 14.5A; Power Line Protection: No; Power - Peak Pulse: 400W; Type: Zener; Voltage - Breakdown (Min): 18.9V; Part Number: SMAJ17CA-13-F; Applications: General Purpose; ComponentLink1Description: Datasheet; ComponentLink1URL: https://www.diodes.com/assets/Datasheets/ds19005.pdf; ComponentLink2Description: DigiKey Link; ComponentLink2URL: http://digikey.com/product-detail/en/diodes-incorporated/SMAJ17CA-13-F/SMAJ17CA-FDICT-ND/816012; LastUpdated: 9/2/2020 1:27:55 AM; Lifecycle Status: Active; Minimum Order: 1; Mounting Type: Surface Mount; Operating Temperature: -55°C ~ 150°C (TJ); Package / Case: DO-214AC, SMA; Packaging: TapeAndReel; PartId: 7788; Part Status: Active; Price: 0.09; Series: -; Supplier 1: DigiKey; Supplier Part Number 1: SMAJ17CA-FDICT-ND; Supplier Device Package: SMA; Voltage - Clamping (Max) @ Ipp: 27.6V; Voltage - Reverse Standoff (Typ): 17V
footprint DO214AC SMA
pins: 1, 2

## SMAJ17CA-E3/61
designator D?
TVS DIODE 17V 27.6V DO214AC; Manufacturer: Vishay Semiconductor Diodes Division; Bidirectional Channels: 1; Current - Peak Pulse (10/1000µs): 14.5A; Power Line Protection: No; Power - Peak Pulse: 400W; Type: Zener; Voltage - Breakdown (Min): 18.9V; Part Number: SMAJ17CA-E3/61; Applications: General Purpose; ComponentLink1Description: Datasheet; ComponentLink1URL: http://www.vishay.com/docs/88390/smaj50a.pdf; ComponentLink2Description: DigiKey Link; ComponentLink2URL: http://digikey.com/product-detail/en/vishay-semiconductor-diodes-division/SMAJ17CA-E3-61/SMAJ17CA-E3-61GICT-ND/3847589; LastUpdated: 9/2/2020 1:27:51 AM; Lifecycle Status: Active; Minimum Order: 1; Mounting Type: Surface Mount; Operating Temperature: -55°C ~ 150°C (TJ); Package / Case: DO-214AC, SMA; Packaging: TapeAndReel; PartId: 7355; Part Status: Active; Price: 0.10; Series: TransZorb®; Supplier 1: DigiKey; Supplier Part Number 1: SMAJ17CA-E3/61GICT-ND; Supplier Device Package: DO-214AC (SMA); Voltage - Clamping (Max) @ Ipp: 27.6V; Voltage - Reverse Standoff (Typ): 17V
footprint DO214AC SMA
pins: 1, 2

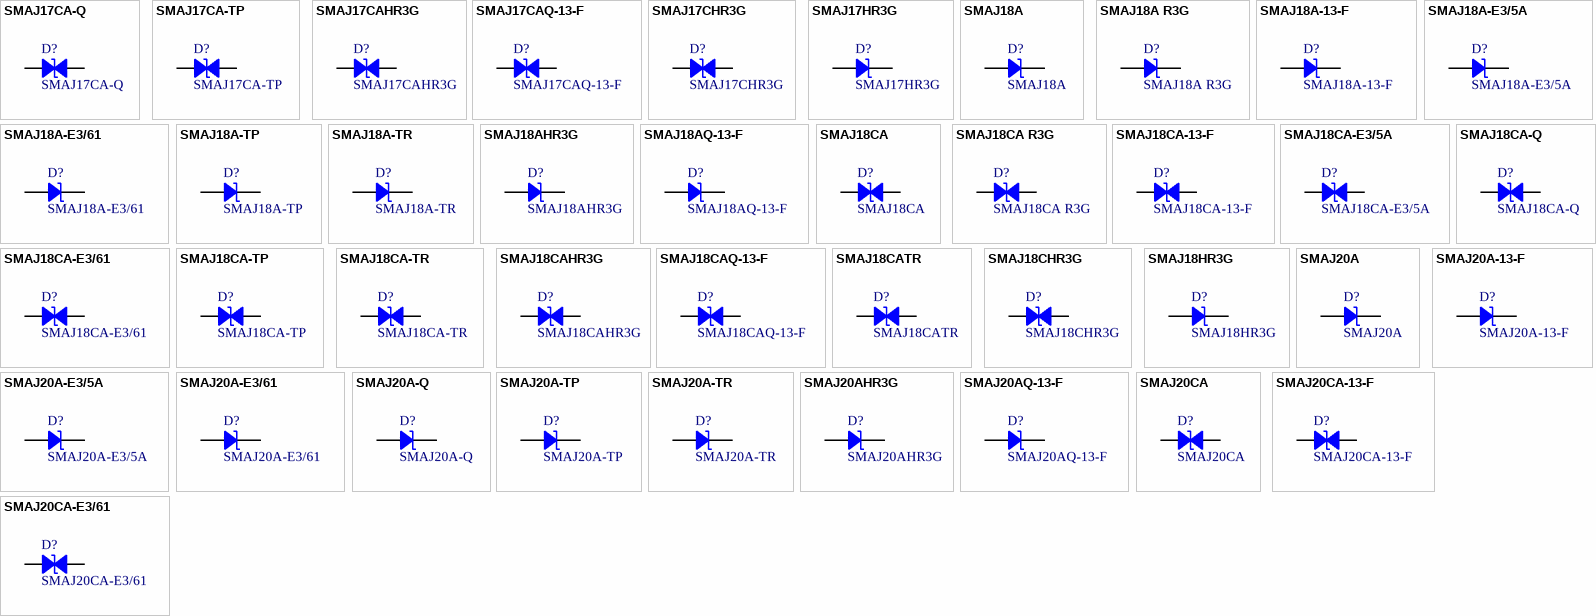
[diagram p56: symbols SMAJ17CA-Q to SMAJ20CA-E3/61]

## SMAJ17CA-Q
designator D?
TVS DIODE 17V 27.6V SMA; Manufacturer: Bourns Inc.; Bidirectional Channels: 1; Current - Peak Pulse (10/1000µs): 14.5A; Power Line Protection: No; Power - Peak Pulse: 400W; Type: Zener; Voltage - Breakdown (Min): 18.9V; Part Number: SMAJ17CA-Q; Applications: Automotive; ComponentLink1Description: Datasheet; ComponentLink1URL: https://www.bourns.com/docs/Product-Datasheets/SMAJ-Q.pdf; ComponentLink2Description: DigiKey Link; ComponentLink2URL: http://digikey.com/product-detail/en/bourns-inc/SMAJ17CA-Q/SMAJ17CA-QCT-ND/10222686; LastUpdated: 9/2/2020 1:27:53 AM; Lifecycle Status: Active; Minimum Order: 1; Mounting Type: Surface Mount; Operating Temperature: -55°C ~ 150°C (TJ); Package / Case: DO-214AC, SMA; Packaging: TapeAndReel; PartId: 7615; Part Status: Active; Price: 0.11; Series: Automotive, AEC-Q101, SMAJ; Supplier 1: DigiKey; Supplier Part Number 1: SMAJ17CA-QCT-ND; Supplier Device Package: SMA (DO-214AC); Voltage - Clamping (Max) @ Ipp: 27.6V; Voltage - Reverse Standoff (Typ): 17V
footprint DO214AC SMA
pins: 1, 2

## SMAJ17CA-TP
designator D?
TVS DIODE 17V 27.6V DO214AC; Manufacturer: Micro Commercial Co; Bidirectional Channels: 1; Current - Peak Pulse (10/1000µs): 14.5A; Power Line Protection: No; Power - Peak Pulse: 400W; Type: Zener; Voltage - Breakdown (Min): 18.9V; Part Number: SMAJ17CA-TP; Applications: General Purpose; ComponentLink1Description: Datasheet; ComponentLink1URL: https://www.mccsemi.com/pdf/Products/SMAJ5.0~SMAJ440CA(SMA).pdf; ComponentLink2Description: DigiKey Link; ComponentLink2URL: http://digikey.com/product-detail/en/micro-commercial-co/SMAJ17CA-TP/SMAJ17CA-TPMSCT-ND/1200579; LastUpdated: 9/2/2020 1:27:51 AM; Lifecycle Status: Active; Minimum Order: 1; Mounting Type: Surface Mount; Operating Temperature: -55°C ~ 175°C (TA); Package / Case: DO-214AC, SMA; Packaging: TapeAndReel; PartId: 7339; Part Status: Active; Price: 0.10; Series: -; Supplier 1: DigiKey; Supplier Part Number 1: SMAJ17CA-TPMSCT-ND; Supplier Device Package: DO-214AC (SMA); Voltage - Clamping (Max) @ Ipp: 27.6V; Voltage - Reverse Standoff (Typ): 17V
footprint DO214AC SMA
pins: 1, 2

## SMAJ17CAHR3G
designator D?
TVS DIODE 17V 27.6V DO214AC; Manufacturer: Taiwan Semiconductor Corporation; Bidirectional Channels: 1; Current - Peak Pulse (10/1000µs): 14.5A; Power Line Protection: No; Power - Peak Pulse: 400W; Type: Zener; Voltage - Breakdown (Min): 18.9V; Part Number: SMAJ17CAHR3G; Applications: Automotive; ComponentLink1Description: Datasheet; ComponentLink1URL: https://www.taiwansemi.com/products/datasheet/SMAJ%20SERIES_S1901.pdf; ComponentLink2Description: DigiKey Link; ComponentLink2URL: http://digikey.com/product-detail/en/taiwan-semiconductor-corporation/SMAJ17CAHR3G/SMAJ17CAHR3GCT-ND/10287924; LastUpdated: 9/2/2020 1:27:54 AM; Lifecycle Status: Active; Minimum Order: 1; Mounting Type: Surface Mount; Operating Temperature: -55°C ~ 150°C (TJ); Package / Case: DO-214AC, SMA; Packaging: TapeAndReel; PartId: 7706; Part Status: Active; Price: 0.12; Series: Automotive, AEC-Q101, SMAJ; Supplier 1: DigiKey; Supplier Part Number 1: SMAJ17CAHR3GCT-ND; Supplier Device Package: DO-214AC (SMA); Voltage - Clamping (Max) @ Ipp: 27.6V; Voltage - Reverse Standoff (Typ): 17V
footprint DO214AC SMA
pins: 1, 2

## SMAJ17CAQ-13-F
designator D?
TRANSIENT VOLTAGE SUPPRESSOR,SMA; Manufacturer: Diodes Incorporated; Bidirectional Channels: 1; Current - Peak Pulse (10/1000µs): 14.5A; Power Line Protection: No; Power - Peak Pulse: 400W; Type: Zener; Voltage - Breakdown (Min): 18.9V; Voltage - Clamping (Max) @ Ipp: 27.6V; Voltage - Reverse Standoff (Typ): 17V; Part Number: SMAJ17CAQ-13-F; Applications: Automotive; ComponentLink1Description: Datasheet; ComponentLink1URL: https://www.diodes.com/assets/Datasheets/ds40739.pdf; ComponentLink2Description: DigiKey Link; ComponentLink2URL: http://digikey.com/product-detail/en/diodes-incorporated/SMAJ17CAQ-13-F/SMAJ17CAQ-13-FDICT-ND/9738969; LastUpdated: 9/2/2020 1:27:53 AM; Lifecycle Status: Active; Minimum Order: 1; Mounting Type: Surface Mount; Operating Temperature: -55°C ~ 150°C (TJ); Package / Case: DO-214AC, SMA; Packaging: TapeAndReel; PartId: 7555; Part Status: Active; Price: 0.10; Series: Automotive, AEC-Q101; Supplier 1: DigiKey; Supplier Part Number 1: SMAJ17CAQ-13-FDICT-ND; Supplier Device Package: SMA
footprint DO214AC SMA
pins: 1, 2

## SMAJ17CHR3G
designator D?
400W 21V 10% BIDIRECTIONAL TVS; Manufacturer: Taiwan Semiconductor Corporation; Bidirectional Channels: 1; Current - Peak Pulse (10/1000µs): 13.1A; Power Line Protection: No; Type: Zener; Voltage - Breakdown (Min): 18.9V; Voltage - Clamping (Max) @ Ipp: 30.5V; Voltage - Reverse Standoff (Typ): 17V; Part Number: SMAJ17CHR3G; Applications: Automotive; ComponentLink1Description: Datasheet; ComponentLink1URL: https://www.taiwansemi.com/products/datasheet/SMAJ%20SERIES_S1901.pdf; ComponentLink2Description: DigiKey Link; ComponentLink2URL: http://digikey.com/product-detail/en/taiwan-semiconductor-corporation/SMAJ17CHR3G/SMAJ17CHR3GCT-ND/10287841; LastUpdated: 9/2/2020 1:27:54 AM; Lifecycle Status: Active; Minimum Order: 1; Mounting Type: Surface Mount; Operating Temperature: -55°C ~ 150°C (TJ); Package / Case: DO-214AC, SMA; Packaging: TapeAndReel; PartId: 7742; Part Status: Active; Power - Peak Pulse: 400W; Price: 0.11; Series: Automotive, AEC-Q101, SMAJ; Supplier 1: DigiKey; Supplier Part Number 1: SMAJ17CHR3GCT-ND; Supplier Device Package: DO-214AC (SMA)
footprint DO214AC SMA
pins: 1, 2